# Altium footprint library IC_Transistor.PcbLib: 25 footprints (part 2 of 2)
Each footprint in its own frame and in the unit in brackets; x right, y up, seen from the top. Pads: shape width x height; smd on the part's side, far side on the other; paste and mask are expansions set on the pad; w line width, h text height; cw(c..) or ccw(c..) is an arc to the next point about the centre after c.
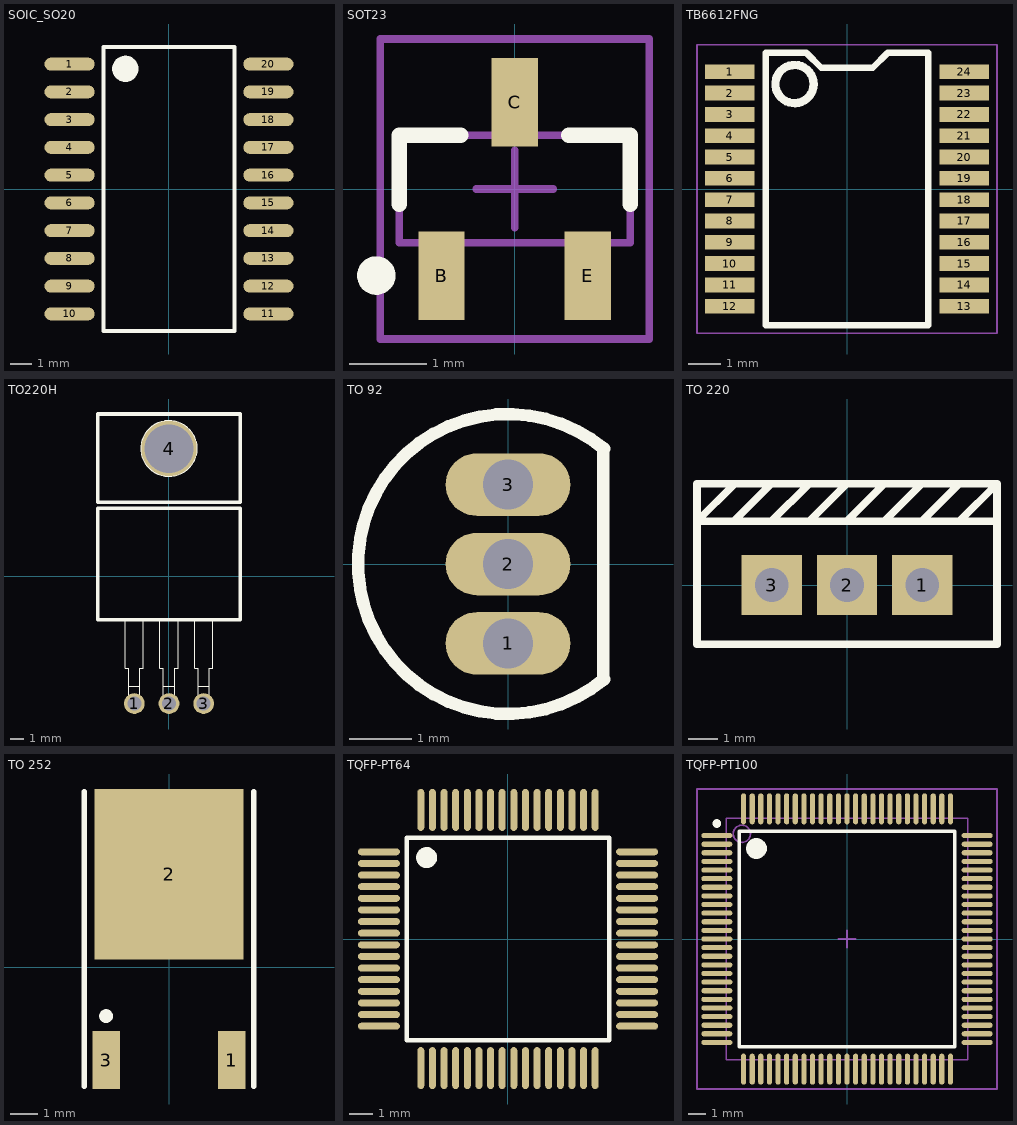
[diagram p1: the footprints below, top view; thin cyan lines are the x and y axes]

## SOIC_SO20 [mm] "SOIC, 20-Leads, Body 12.8x7.5mm, Pitch 1.27mm, IPC Medium Density"
height 2.65
pads (20):
  oval 2.3x0.6 smd: 1(-4.55,5.715) 2(-4.55,4.445) 3(-4.55,3.175) 4(-4.55,1.905) 5(-4.55,0.635) 6(-4.55,-0.635) 7(-4.55,-1.905) 8(-4.55,-3.175) 9(-4.55,-4.445) 10(-4.55,-5.715) 11(4.55,-5.715) 12(4.55,-4.445) 13(4.55,-3.175) 14(4.55,-1.905) 15(4.55,-0.635) 16(4.55,0.635) 17(4.55,1.905) 18(4.55,3.175) 19(4.55,4.445) 20(4.55,5.715)
Top Overlay:
  circle w0.6: c-2,5.5 r0.3
  lines w0.2: -3,-6.5 3,-6.5 3,6.5 -3,6.5 -3,-6.5
3D body "SO20_WIDE.step": height 1.7, standoff 0, extent -5.321,-6.223 5.321,6.223

## SOT23 [mm]
pads (3):
  rect 0.6x1.15 smd: B(-0.95,-1.125) C(0,1.125) E(0.95,-1.125)
Top Overlay:
  circle w0.25: c-1.8,-1.125 r0.125
  lines w0.2: -1.5,-0.2 -1.5,0.7 -0.7,0.7 ; 0.7,0.7 1.5,0.7 1.5,-0.2
Mechanical 13:
  lines w0.1: -1.5,-0.7 -1.5,0.7 1.5,0.7 1.5,-0.7 -1.5,-0.7
Mechanical 15:
  lines w0.1: -0.5,0 0.5,0 ; 0,-0.5 0,0.5 ; -1.75,-1.95 -1.75,1.95 1.75,1.95 1.75,-1.95 -1.75,-1.95
3D body "User Library-sot23-1.SLDPRT": height 1, standoff 0, extent -1.46,-1.17 1.46,1.17

## TB6612FNG [mm] "TB6612FNG"
pads (24):
  rect 1.5x0.45 smd: 1(-3.575,3.575) 2(-3.575,2.925) 3(-3.575,2.275) 4(-3.575,1.625) 5(-3.575,0.975) 6(-3.575,0.325) 7(-3.575,-0.325) 8(-3.575,-0.975) 9(-3.575,-1.625) 10(-3.575,-2.275) 11(-3.575,-2.925) 12(-3.575,-3.575) 13(3.575,-3.575) 14(3.575,-2.925) 15(3.575,-2.275) 16(3.575,-1.625) 17(3.575,-0.975) 18(3.575,-0.325) 19(3.575,0.325) 20(3.575,0.975) 21(3.575,1.625) 22(3.575,2.275) 23(3.575,2.925) 24(3.575,3.575)
Top Overlay:
  circle w0.254: c-1.6,3.2 r0.583
  lines w0.2: -2.475,-4.15 -2.475,4.15 -1.237,4.15 -0.787,3.7 0.787,3.7 1.237,4.15 2.475,4.15 2.475,-4.15 -2.475,-4.15
Mechanical 2:
  lines w0.05: -4.575,-4.4 -4.575,4.4 4.575,4.4 4.575,-4.4 -4.575,-4.4
3D body "TB6612FNG,C,8,EL.stp": height 1.6, standoff 0, extent -3.9,-4.15 3.7,4.15

## TO220H [mm]
pads (4):
  round 1.5 hole 1: 1(-2.5,-9.2) 2(0,-9.2) 3(2.5,-9.2)
  round 4 hole 3.5: 4(0,9.2)
Top Overlay:
  circle w0.127: c0,9.2 r2
  lines w0.051: -3.15,-3.16 -3.15,-6.66 -2.9,-6.66 -2.9,-9.36 -2.1,-9.36 -2.1,-6.66 -1.85,-6.66 -1.85,-3.16 ; -2.9,-7.96 -2.1,-7.96 ; -0.65,-3.16 -0.65,-6.66 -0.4,-6.66 -0.4,-9.36 0.4,-9.36 0.4,-6.66 0.65,-6.66 0.65,-3.16 ; -0.4,-7.96 0.4,-7.96 ; 1.85,-3.16 1.85,-6.66 2.1,-6.66 2.1,-9.36 2.9,-9.36 2.9,-6.66 3.15,-6.66 3.15,-3.16 ; 2.1,-7.96 2.9,-7.96
  lines w0.254: -5.15,-3.16 -5.15,4.893 5.15,4.893 5.15,-3.16 -5.15,-3.16 ; -5.14,5.34 -5.14,11.69 5.14,11.69 5.14,5.34 -5.14,5.34
3D body "User Library-TO220-1.STEP": height 4.5, standoff -3.5, extent -5.2,-9.36 5.2,11.74

## TO 92 [mm] "TO, Flat Index; 3 In-Line, Axial Leads; Body Dia. 4.6mm; Leads 0.48 x 0.43 mm (max)"
height 4.98
pads (3):
  oval 2x1 hole 0.8: 1(0,-1.27) 2(0,0) 3(0,1.27)
Top Overlay:
  lines w0.2: 1.526,-1.801 1.526,1.799 ; 1.536,-1.844 cw(c0,0) 1.536,1.844
3D body "User Library-TO-92_Str.STEP": height 8, standoff -5, extent -2.613,-2.613 1.59,2.613

## TO 220 [mil]
pads (3):
  rect 80x80 hole 45: 1(100,0) 2(0,0) 3(-100,0)
Top Overlay:
  lines w10: -150.5,85 -100.5,135 ; -149.5,135 -199.5,85 ; -100.5,85 -50.5,135 ; -50.5,85 -0.5,135 ; -0.5,85 49.5,135 ; 49.5,85 99.5,135 ; 99.5,85 149.5,135 ; 149.5,85 199.5,135 ; -199.5,85 -199.5,135 199.5,135 ; -199.5,85 199.5,85 ; -199.5,85 -199.5,-78.74 199.5,-78.74 199.5,85 ; 199.5,85 199.5,135
3D body "User Library-TO-220-4.STEP": height 789.77, standoff -344.09, extent -200.78,-68.89 200.79,108.27

## TO 252 [mm]
pads (3):
  rect 1x2.1 smd: 1(2.285,-3.375) 3(-2.285,-3.375)
  rect 5.4x6.2 smd: 2(0,3.375)
Top Overlay:
  circle w0.25: c-2.285,-1.775 r0.125
  lines w0.2: -3.085,-4.325 -3.085,6.375 ; 3.085,-4.325 3.085,6.375
3D body "User Library-DPAK-1.step": height 2.39, standoff -0.02, extent -3.27,-4.111 3.27,5.827

## TQFP-PT64 [mm]
height 0.4
pads (64):
  oval 1.8x0.3 smd: 1(-5.55,3.75) 2(-5.55,3.25) 3(-5.55,2.75) 4(-5.55,2.25) 5(-5.55,1.75) 6(-5.55,1.25) 7(-5.55,0.75) 8(-5.55,0.25) 9(-5.55,-0.25) 10(-5.55,-0.75) 11(-5.55,-1.25) 12(-5.55,-1.75) 13(-5.55,-2.25) 14(-5.55,-2.75) 15(-5.55,-3.25) 16(-5.55,-3.75) 33(5.55,-3.75) 34(5.55,-3.25) 35(5.55,-2.75) 36(5.55,-2.25) 37(5.55,-1.75) 38(5.55,-1.25) 39(5.55,-0.75) 40(5.55,-0.25) 41(5.55,0.25) 42(5.55,0.75) 43(5.55,1.25) 44(5.55,1.75) 45(5.55,2.25) 46(5.55,2.75) 47(5.55,3.25) 48(5.55,3.75)
  oval 0.3x1.8 smd: 17(-3.75,-5.55) 18(-3.25,-5.55) 19(-2.75,-5.55) 20(-2.25,-5.55) 21(-1.75,-5.55) 22(-1.25,-5.55) 23(-0.75,-5.55) 24(-0.25,-5.55) 25(0.25,-5.55) 26(0.75,-5.55) 27(1.25,-5.55) 28(1.75,-5.55) 29(2.25,-5.55) 30(2.75,-5.55) 31(3.25,-5.55) 32(3.75,-5.55) 49(3.75,5.55) 50(3.25,5.55) 51(2.75,5.55) 52(2.25,5.55) 53(1.75,5.55) 54(1.25,5.55) 55(0.75,5.55) 56(0.25,5.55) 57(-0.25,5.55) 58(-0.75,5.55) 59(-1.25,5.55) 60(-1.75,5.55) 61(-2.25,5.55) 62(-2.75,5.55) 63(-3.25,5.55) 64(-3.75,5.55)
Top Overlay:
  circle w0.5: c-3.5,3.5 r0.2
  lines w0.2: -4.35,-4.35 4.35,-4.35 4.35,4.35 -4.35,4.35 -4.35,-4.35
3D body "User Library-TQFP64-2.STEP": height 1.18, standoff -0.02, extent -6.1,-6.1 6.1,6.1

## TQFP-PT100 [mm] "Thin QFP, 100Leads, Body 14x14mm, Pitch 0.5mm, IPC Medium Density"
pads (100):
  oval 1.8x0.3 smd: 1(-7.55,6) 2(-7.55,5.5) 3(-7.55,5) 4(-7.55,4.5) 5(-7.55,4) 6(-7.55,3.5) 7(-7.55,3) 8(-7.55,2.5) 9(-7.55,2) 10(-7.55,1.5) 11(-7.55,1) 12(-7.55,0.5) 13(-7.55,0) 14(-7.55,-0.5) 15(-7.55,-1) 16(-7.55,-1.5) 17(-7.55,-2) 18(-7.55,-2.5) 19(-7.55,-3) 20(-7.55,-3.5) 21(-7.55,-4) 22(-7.55,-4.5) 23(-7.55,-5) 24(-7.55,-5.5) 25(-7.55,-6) 51(7.55,-6) 52(7.55,-5.5) 53(7.55,-5) 54(7.55,-4.5) 55(7.55,-4) 56(7.55,-3.5) 57(7.55,-3) 58(7.55,-2.5) 59(7.55,-2) 60(7.55,-1.5) 61(7.55,-1) 62(7.55,-0.5) 63(7.55,0) 64(7.55,0.5) 65(7.55,1) 66(7.55,1.5) 67(7.55,2) 68(7.55,2.5) 69(7.55,3) 70(7.55,3.5) 71(7.55,4) 72(7.55,4.5) 73(7.55,5) 74(7.55,5.5) 75(7.55,6)
  oval 0.3x1.8 smd: 26(-6,-7.55) 27(-5.5,-7.55) 28(-5,-7.55) 29(-4.5,-7.55) 30(-4,-7.55) 31(-3.5,-7.55) 32(-3,-7.55) 33(-2.5,-7.55) 34(-2,-7.55) 35(-1.5,-7.55) 36(-1,-7.55) 37(-0.5,-7.55) 38(0,-7.55) 39(0.5,-7.55) 40(1,-7.55) 41(1.5,-7.55) 42(2,-7.55) 43(2.5,-7.55) 44(3,-7.55) 45(3.5,-7.55) 46(4,-7.55) 47(4.5,-7.55) 48(5,-7.55) 49(5.5,-7.55) 50(6,-7.55) 76(6,7.55) 77(5.5,7.55) 78(5,7.55) 79(4.5,7.55) 80(4,7.55) 81(3.5,7.55) 82(3,7.55) 83(2.5,7.55) 84(2,7.55) 85(1.5,7.55) 86(1,7.55) 87(0.5,7.55) 88(0,7.55) 89(-0.5,7.55) 90(-1,7.55) 91(-1.5,7.55) 92(-2,7.55) 93(-2.5,7.55) 94(-3,7.55) 95(-3.5,7.55) 96(-4,7.55) 97(-4.5,7.55) 98(-5,7.55) 99(-5.5,7.55) 100(-6,7.55)
Top Overlay:
  circle w0.6: c-5.25,5.25 r0.3
  circle w0.25: c-7.55,6.7 r0.125
  lines w0.2: -6.25,-6.25 6.25,-6.25 6.25,6.25 -6.25,6.25 -6.25,-6.25
Mechanical 13:
  circle w0.1: c-6.1,6.1 r0.5
  lines w0.1: -7,-7 7,-7 7,7 -7,7 -7,-7
Mechanical 15:
  lines w0.1: -0.5,0 0.5,0 ; 0,-0.5 0,0.5 ; -8.7,-8.7 8.7,-8.7 8.7,8.7 -8.7,8.7 -8.7,-8.7
3D body "User Library-TQFP100_Grid_0_5.STEP": height 1.2, standoff 0, extent -8,-8 8,8